# EAGLE library part XULA-CONN (library xess)
XuLA Board Connector
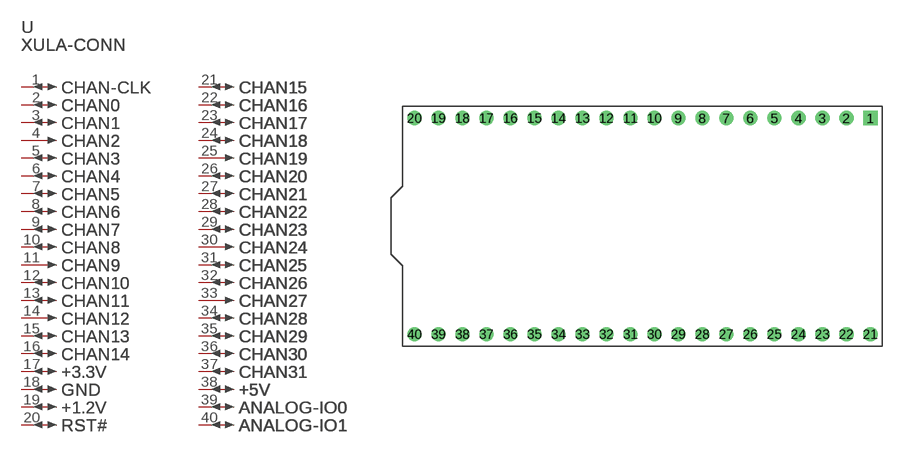
[diagram p131: symbol with the pads of XULA-DIP40; footprint XULA-DIP40]

Designator prefix U; gates CHAN-CLK=PIN_GATE_IO CHAN0=PIN_GATE_IO CHAN1=PIN_GATE_IO CHAN2=PIN_GATE_IN CHAN3=PIN_GATE_IO CHAN4=PIN_GATE_IO CHAN5=PIN_GATE_IO CHAN6=PIN_GATE_IO CHAN7=PIN_GATE_IO CHAN8=PIN_GATE_IO CHAN9=PIN_GATE_IN CHAN10=PIN_GATE_IO CHAN11=PIN_GATE_IO CHAN12=PIN_GATE_IN CHAN13=PIN_GATE_IO CHAN14=PIN_GATE_IO +3.3V=PIN_GATE_IO GND=PIN_GATE_IO +1.2V=PIN_GATE_IO RST#=PIN_GATE_IO CHAN15=PIN_GATE_IO CHAN16=PIN_GATE_IO CHAN17=PIN_GATE_IO CHAN18=PIN_GATE_IO CHAN19=PIN_GATE_IN CHAN20=PIN_GATE_IO CHAN21=PIN_GATE_IO CHAN22=PIN_GATE_IO CHAN23=PIN_GATE_IO CHAN24=PIN_GATE_IN CHAN25=PIN_GATE_IO CHAN26=PIN_GATE_IO CHAN27=PIN_GATE_IN CHAN28=PIN_GATE_IO CHAN29=PIN_GATE_IO CHAN30=PIN_GATE_IO CHAN31=PIN_GATE_IO +5V=PIN_GATE_IO ANALOG-IO0=PIN_GATE_IO ANALOG-IO1=PIN_GATE_IO G$1=PV_GATE

## XULA-CONN  [XULA-DIP40]
1  CHAN-CLK:1
2  CHAN0:1
3  CHAN1:1
4  CHAN2:1  in
5  CHAN3:1
6  CHAN4:1
7  CHAN5:1
8  CHAN6:1
9  CHAN7:1
10  CHAN8:1
11  CHAN9:1  in
12  CHAN10:1
13  CHAN11:1
14  CHAN12:1  in
15  CHAN13:1
16  CHAN14:1
17  +3.3V:1
18  GND:1
19  +1.2V:1
20  RST#:1
21  CHAN15:1
22  CHAN16:1
23  CHAN17:1
24  CHAN18:1
25  CHAN19:1  in
26  CHAN20:1
27  CHAN21:1
28  CHAN22:1
29  CHAN23:1
30  CHAN24:1  in
31  CHAN25:1
32  CHAN26:1
33  CHAN27:1  in
34  CHAN28:1
35  CHAN29:1
36  CHAN30:1
37  CHAN31:1
38  +5V:1
39  ANALOG-IO0:1
40  ANALOG-IO1:1

## Footprint XULA-DIP40 (pad centres in mm)
Dual In Line Socked
drill 1.016 square: 1 49.53,24.13
drill 1.016 round: 2 46.99,24.13; 3 44.45,24.13; 4 41.91,24.13; 5 39.37,24.13; 6 36.83,24.13; 7 34.29,24.13; 8 31.75,24.13; 9 29.21,24.13; 10 26.67,24.13; 11 24.13,24.13; 12 21.59,24.13; 13 19.05,24.13; 14 16.51,24.13; 15 13.97,24.13; 16 11.43,24.13; 17 8.89,24.13; 18 6.35,24.13; 19 3.81,24.13; 20 1.27,24.13; 21 49.53,1.27; 22 46.99,1.27; 23 44.45,1.27; 24 41.91,1.27; 25 39.37,1.27; 26 36.83,1.27; 27 34.29,1.27; 28 31.75,1.27; 29 29.21,1.27; 30 26.67,1.27; 31 24.13,1.27; 32 21.59,1.27; 33 19.05,1.27; 34 16.51,1.27; 35 13.97,1.27; 36 11.43,1.27; 37 8.89,1.27; 38 6.35,1.27; 39 3.81,1.27; 40 1.27,1.27